# Altium footprint library WatchX_Pro.PcbLib: 22 footprints (part 1 of 2)
Each footprint in its own frame and in the unit in brackets; x right, y up, seen from the top. Pads: shape width x height; smd on the part's side, far side on the other; paste and mask are expansions set on the pad; w line width, h text height; cw(c..) or ccw(c..) is an arc to the next point about the centre after c.
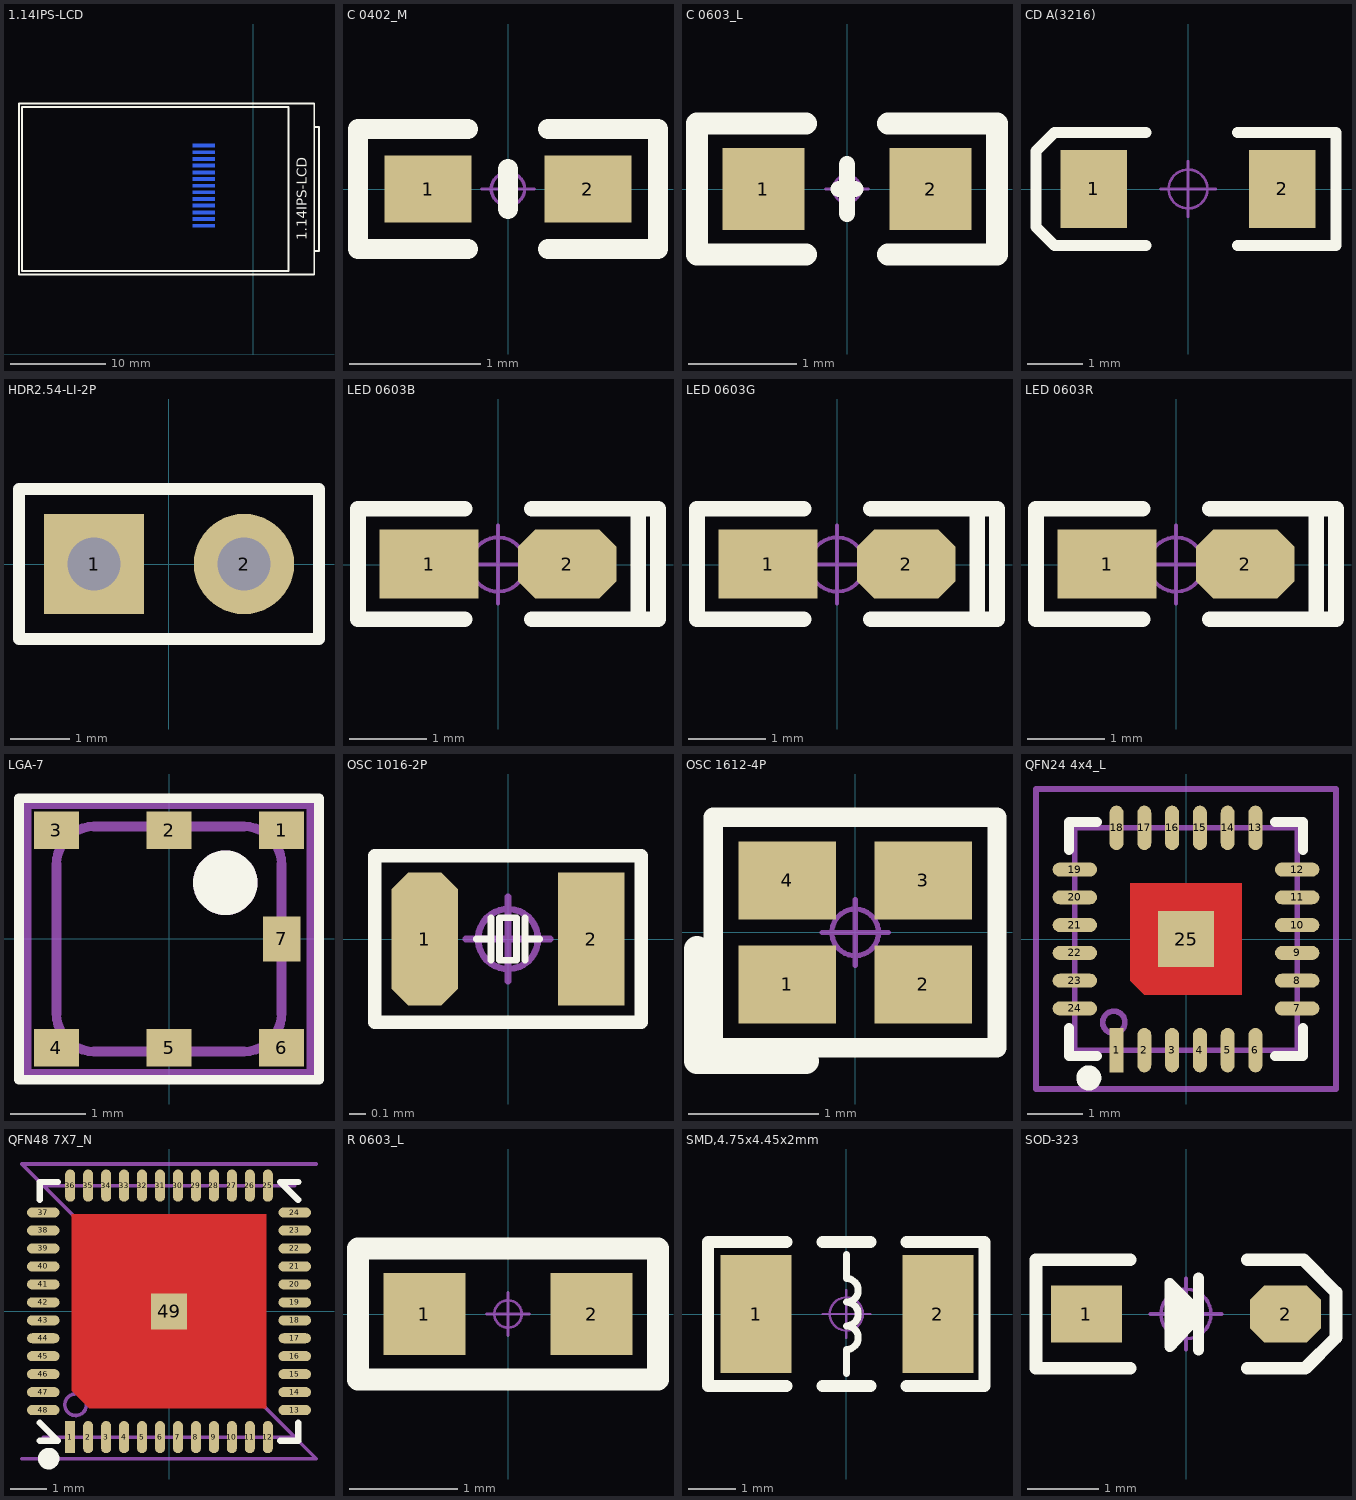
[diagram p0: the footprints below, top view; thin cyan lines are the x and y axes]

## 1.14IPS-LCD [mm] "1.14寸IPS-LCD裸屏SPI接口"
pads (13):
  rect 2.3x0.35 smd far side: 1(-5.2,21.95) 2(-5.2,21.25) 3(-5.2,20.55) 4(-5.2,19.85) 5(-5.2,19.15) 6(-5.2,18.45) 7(-5.2,17.75) 8(-5.2,17.05) 9(-5.2,16.35) 10(-5.2,15.65) 11(-5.2,14.95) 12(-5.2,14.25) 13(-5.2,13.55)
Top Overlay:
  lines w0.04: 6.4,8.4 6.4,12.5
  lines w0.203: 6.4,10.9 6.9,10.9 6.9,23.9 6.4,23.9 ; -24.6,8.4 6.4,8.4 6.4,26.4 -24.6,26.4 -24.6,8.4 ; -24.31,8.8 3.7,8.8 3.71,8.81 3.71,26 -24.3,26 -24.3,8.81 -24.31,8.8
  text "1.14IPS-LCD" at 5.6,12 h1.02
Bottom Overlay:
  lines w0.04: 5.125,8.4 5.125,11.4 ; 6.4,11.4 6.4,18.475
  lines w0.203: 6.4,8.4 6.4,11.4 ; -6.6,11.375 6.4,11.375 6.4,21.375 -1.6,24.375 -6.6,24.375 -6.6,11.375

## C 0402_M [mil] "无极性贴片电容"
pads (2):
  rect 26x20 smd: 1(-24,0) 2(24,0)
Top Overlay:
  lines w6: -12,-18 -45,-18 -45,18 -12,18 ; 0,-6 0,6 ; 12,-18 45,-18 45,18 12,18
Mechanical 15:
  circle w1: c0,0 r5
  lines w1: -7.87,0 7.87,0 ; 0,-7.87 0,7.87
3D body "C 0402.STEP": height 20.68, standoff 0.21, extent -19.68,-10.24 19.68,10.24

## C 0603_L [mil] "无极性贴片电容"
pads (2):
  rect 30x30 smd: 1(-30.59,0) 2(30.59,0)
Top Overlay:
  lines w6: -3,0 0,0 3,0 ; 0,-9 0,9
  lines w8: -15,-24 -54.82,-24 -54.82,24 -15,24 ; 15,-24 54.82,-24 54.82,24 15,24
Mechanical 15:
  circle w1: c0,0 r5
  lines w1: -7.87,0 7.87,0 ; 0,-7.87 0,7.87
3D body "C 0603.STEP": height 31.89, standoff -0.39, extent -31.5,-16.14 31.5,16.14

## CD A(3216) [mm] "长3.2mm，宽1.6mm，厚1.6mm"
pads (2):
  rect 1.2x1.4 smd: 1(-1.7,0) 2(1.7,0)
Top Overlay:
  lines w0.2: -0.762,-1.016 -2.413,-1.016 -2.743,-0.686 -2.743,0.686 -2.413,1.016 -0.762,1.016 ; 0.889,-1.016 2.667,-1.016 2.667,1.016 0.889,1.016
Mechanical 15:
  circle w0.05: c0,0 r0.35
  lines w0.05: -0.5,0 0.5,0 ; 0,-0.5 0,0.5
3D body "CD A(3216).STEP": height 1.6, standoff -0.01, extent -1.6,-0.8 1.6,0.8

## HDR2.54-LI-2P [mm] "排针，2脚"
pads (2):
  rect 1.7x1.7 hole 0.9: 1(-1.27,0)
  round 1.7 hole 0.9: 2(1.27,0)
Top Overlay:
  lines w0.2: -2.54,-1.27 -2.54,1.27 2.54,1.27 2.54,-1.27 -2.54,-1.27
3D body "HDR2.54-1P.STEP": height 8.5, standoff -3, extent 0,-1.27 2.54,1.27
3D body "HDR2.54-1P.STEP": height 8.5, standoff -3, extent -2.54,-1.27 0,1.27

## LED 0603B [mil] "蓝色0603LED"
pads (2):
  rect 50x35 smd: 1(-35,0.26)
  oct 50x35 smd: 2(35,0.26)
Top Overlay:
  lines w8: -17,-27.74 -71,-27.74 -71,-25.74 -71,28.26 -70,28.26 -17,28.26 ; 17,-27.74 70,-27.74 ; 17,28.26 71,28.26 81,28.26 81,-27.74 71,-27.74 71,26.26
Mechanical 15:
  circle w1.97: c0,0 r13.78
  lines w1.97: -19.69,0 19.68,0 ; 0,-19.69 0,19.68
3D body "LED 0603-B.STEP": height 18.36, standoff -0.16, extent -31.49,-15.79 31.5,15.79
3D body "LED 0603玻璃罩.STEP": height 23.82, standoff 8.07, extent -23.58,-15.79 23.58,15.79

## LED 0603G [mil] "绿色0603LED"
pads (2):
  rect 50x35 smd: 1(-35,0.26)
  oct 50x35 smd: 2(35,0.26)
Top Overlay:
  lines w8: -17,-27.74 -71,-27.74 -71,-25.74 -71,28.26 -70,28.26 -17,28.26 ; 17,-27.74 70,-27.74 ; 17,28.26 71,28.26 81,28.26 81,-27.74 71,-27.74 71,26.26
Mechanical 15:
  circle w1.97: c0,0 r13.78
  lines w1.97: -19.68,0 19.69,0 ; 0,-19.68 0,19.69
3D body "LED 0603玻璃罩.": height 0, standoff 0, extent 0,0 0,0
3D body "LED 0603-G.STEP": height 18.36, standoff -0.16, extent -31.49,-15.79 31.5,15.79

## LED 0603R [mil] "红色0603LED"
pads (2):
  rect 50x35 smd: 1(-35,0.26)
  oct 50x35 smd: 2(35,0.26)
Top Overlay:
  lines w8: -17,-27.74 -71,-27.74 -71,-25.74 -71,28.26 -70,28.26 -17,28.26 ; 17,-27.74 70,-27.74 ; 17,28.26 71,28.26 81,28.26 81,-27.74 71,-27.74 71,26.26
Mechanical 15:
  circle w1.97: c0,0 r13.78
  lines w1.97: -19.69,0 19.68,0 ; 0,-19.69 0,19.68
3D body "LED 0603玻璃罩.": height 0, standoff 0, extent 0,0 0,0
3D body "LED 0603-R.STEP": height 18.36, standoff -0.16, extent -31.5,-15.79 31.5,15.79

## LGA-7 [mm]
pads (7):
  rect 0.6x0.5 smd: 1(1.5,1.45) 2(0,1.45) 3(-1.5,1.45) 4(-1.5,-1.45) 5(0,-1.45) 6(1.5,-1.45)
  rect 0.5x0.6 smd: 7(1.5,0)
Top Overlay:
  circle w0.61: c0.75,0.75 r0.125
  circle w0.61: c0.75,0.75 r0.125
  lines w0.127: -2,-1.875 2,-1.875 2,1.875 -2,1.875 -2,-1.875
Mechanical 13:
  circle w0.61: c0.75,0.75 r0.125
  lines w0.127: -1.9,-1.8 1.9,-1.8 1.9,1.8 -1.9,1.8 -1.9,-1.8 ; -1.5,-1 ccw(c-1,-1) -1,-1.5 1,-1.5 ccw(c1,-1) 1.5,-1 1.5,1 ccw(c1,1) 1,1.5 -1,1.5 ccw(c-1,1) -1.5,1 -1.5,-1

## OSC 1016-2P [mm] "1.6*1.0*0.5mm(长宽高)"
height 0.5
pads (2):
  oct 0.4x0.8 smd: 1(-0.5,0)
  rect 0.4x0.8 smd: 2(0.5,0)
Top Overlay:
  lines w0.04: -0.191,0 -0.102,0 ; -0.102,-0.127 -0.102,0.127 ; 0.102,-0.127 0.102,0.127 ; 0.102,0 0.191,0 ; -0.051,-0.127 -0.051,0.127 0.051,0.127 0.051,-0.127 -0.051,-0.127
  lines w0.08: -0.8,-0.5 -0.8,0.5 0.8,0.5 0.8,-0.5 -0.8,-0.5
Mechanical 15:
  circle w0.04: c0,0 r0.18
  lines w0.04: -0.254,0 0.254,0 ; 0,-0.254 0,0.254

## OSC 1612-4P [mm] "1.6*1.2*0.35mm（长宽高）"
pads (4):
  rect 0.75x0.6 smd: 1(-0.525,-0.4) 2(0.525,-0.4) 3(0.525,0.4) 4(-0.525,0.4)
Top Overlay:
  lines w0.15: -1.092,-0.889 1.092,-0.889 1.092,0.889 -1.092,0.889 -1.092,-0.889
  lines w0.2: -1.219,-0.991 -0.381,-0.991 ; -1.219,-0.965 -1.219,-0.127
Mechanical 15:
  circle w0.04: c0,0 r0.18
  lines w0.04: -0.254,0 0.254,0 ; 0,-0.254 0,0.254
3D body "OSC 1612-4.STEP": height 0.35, standoff -0.02, extent -0.8,-0.6 0.8,0.6

## QFN24 4x4_L [mm] "24脚，长x宽x高：4x4x1mm，脚距：0.5mm"
pads (25):
  rect 0.25x0.8 smd: 1(-1.25,-2)
  oval 0.25x0.8 smd: 2(-0.75,-2) 3(-0.25,-2) 4(0.25,-2) 5(0.75,-2) 6(1.25,-2) 13(1.25,2) 14(0.75,2) 15(0.25,2) 16(-0.25,2) 17(-0.75,2) 18(-1.25,2)
  oval 0.8x0.25 smd: 7(2,-1.25) 8(2,-0.75) 9(2,-0.25) 10(2,0.25) 11(2,0.75) 12(2,1.25) 19(-2,1.25) 20(-2,0.75) 21(-2,0.25) 22(-2,-0.25) 23(-2,-0.75) 24(-2,-1.25)
  rect 1x1 smd: 25(0,0)
Top Layer:
  region: -1,1 1,1 1,-1 -0.75,-1 -1,-0.75
Top Overlay:
  circle w0.25: c-1.75,-2.5 r0.1
  lines w0.178: -2.106,-1.6 -2.106,-2.106 -1.6,-2.106 ; -2.106,1.6 -2.106,2.106 -1.6,2.106 ; 1.6,-2.106 2.106,-2.106 2.106,-1.6 ; 1.6,2.106 2.106,2.106 2.106,1.6
Top Solder:
  region: -1,1 1,1 1,-1 -0.75,-1 -1,-0.75
Mechanical 13:
  circle w0.1: c-1.3,-1.5 r0.2
  lines w0.1: -2,-2 -2,2 2,2 2,-2 -2,-2
Mechanical 15:
  circle w0.05: c0,0 r0.35
  lines w0.05: -0.5,0 0.5,0 ; 0,-0.5 0,0.5
  lines w0.1: -2.7,-2.7 2.7,-2.7 2.7,2.7 -2.7,2.7 -2.7,-2.7
3D body "QFN24-4X4.STEP": height 0.95, standoff -0.05, extent -2.01,-2.01 2.01,2.01

## QFN48 7X7_N [mm] "48脚，长x宽x高：7x7x1mm，脚距：0.5mm"
pads (49):
  rect 0.28x0.9 smd: 1(-2.75,-3.5)
  oval 0.28x0.9 smd: 2(-2.25,-3.5) 3(-1.75,-3.5) 4(-1.25,-3.5) 5(-0.75,-3.5) 6(-0.25,-3.5) 7(0.25,-3.5) 8(0.75,-3.5) 9(1.25,-3.5) 10(1.75,-3.5) 11(2.25,-3.5) 12(2.75,-3.5) 25(2.75,3.5) 26(2.25,3.5) 27(1.75,3.5) 28(1.25,3.5) 29(0.75,3.5) 30(0.25,3.5) 31(-0.25,3.5) 32(-0.75,3.5) 33(-1.25,3.5) 34(-1.75,3.5) 35(-2.25,3.5) 36(-2.75,3.5)
  oval 0.9x0.28 smd: 13(3.5,-2.75) 14(3.5,-2.25) 15(3.5,-1.75) 16(3.5,-1.25) 17(3.5,-0.75) 18(3.5,-0.25) 19(3.5,0.25) 20(3.5,0.75) 21(3.5,1.25) 22(3.5,1.75) 23(3.5,2.25) 24(3.5,2.75) 37(-3.5,2.75) 38(-3.5,2.25) 39(-3.5,1.75) 40(-3.5,1.25) 41(-3.5,0.75) 42(-3.5,0.25) 43(-3.5,-0.25) 44(-3.5,-0.75) 45(-3.5,-1.25) 46(-3.5,-1.75) 47(-3.5,-2.25) 48(-3.5,-2.75)
  rect 1x1 smd mask+0.051: 49(0,0)
Top Layer:
  region: -2.7,2.7 2.7,2.7 2.7,-2.7 -2.214,-2.7 -2.7,-2.214
Top Overlay:
  circle w0.3: c-3.35,-4.1 r0.15
  lines w0.178: -3.6,-3.6 -3.1,-3.6 -3.6,-3.1 ; -3.6,3.1 -3.6,3.6 -3.1,3.6 ; 3.1,-3.6 3.6,-3.6 3.6,-3.1 ; 3.6,3.1 3.1,3.6 3.6,3.6
Top Solder:
  region: -2.7,2.7 2.7,2.7 2.7,-2.7 -2.214,-2.7 -2.7,-2.214
Mechanical 13:
  circle w0.1: c-2.6,-2.6 r0.3
  lines w0.1: -3.5,-3.5 3.5,-3.5 ; 3.5,3.5 -3.5,3.5 ; -3.5,3.5 3.5,-3.5 ; -3.5,3.5 3.5,-3.5
Mechanical 15:
  circle w0.05: c0,0 r0.35
  lines w0.05: -0.5,0 0.5,0 ; 0,-0.5 0,0.5
  lines w0.1: -4.1,-4.1 4.1,-4.1 ; 4.1,4.1 -4.1,4.1 ; -4.1,4.1 4.1,-4.1 ; -4.1,4.1 4.1,-4.1
3D body "QFN48-7X7.STEP": height 0.95, standoff -0.05, extent -3.51,-3.51 3.51,3.51

## R 0603_L [mil] "1/10W贴片电阻"
pads (2):
  rect 30x30 smd: 1(-30.59,0) 2(30.59,0)
Top Overlay:
  lines w8: -16,24 54.82,24 54.82,-24 -15,-24 -54.82,-24 -54.82,24 -15,24
Mechanical 15:
  circle w1: c0,0 r5
  lines w1: -7.87,0 7.87,0 ; 0,-7.87 0,7.87
3D body "R 0603.STEP": height 15.79, standoff -0.13, extent -31.49,-15.75 31.5,15.75

## SMD,4.75x4.45x2mm [mm] "4.75x4.45x2mm长宽高"
height 2
pads (2):
  rect 1.5x2.5 smd: 1(-1.905,0) 2(1.93,0)
Top Overlay:
  lines w0.15: 0,-1.258 0,-0.75 ccw(c0,-0.5) 0,-0.25 ccw(c0,0) 0,0.25 ccw(c0,0.5) 0,0.75 0,1.258
  lines w0.254: -1.27,-1.524 -2.921,-1.524 -2.921,1.524 -1.27,1.524 ; -0.508,-1.524 0.508,-1.524 ; -0.508,1.524 0.508,1.524 ; 1.27,-1.524 2.921,-1.524 2.921,1.524 1.27,1.524
Mechanical 15:
  circle w0.05: c0,0 r0.35
  lines w0.05: -0.5,0 0.5,0 ; 0,-0.5 0,0.5

## SOD-323 [mm] "1.8x1.3X0.9mm（长宽高，不包括引脚）"
pads (2):
  rect 1x0.8 smd: 1(-1.4,0)
  oct 1x0.8 smd: 2(1.4,0)
Top Overlay:
  lines w0.152: 0.178,-0.508 0.178,0.508 ; 0.178,-0.025 -0.229,-0.457 -0.229,0.432 0.178,0.025
  lines w0.178: -0.787,-0.762 -2.108,-0.762 -2.108,0.762 -0.787,0.762 ; 0.864,-0.762 1.676,-0.762 2.108,-0.33 2.108,0.305 1.651,0.762 0.864,0.762
  lines w0.254: -0.127,0.254 -0.152,-0.178 0.025,-0.025 -0.025,0.127
Mechanical 15:
  circle w0.05: c0,0 r0.35
  lines w0.05: -0.5,0 0.5,0 ; 0,-0.5 0,0.5
3D body "SOD-323.STEP": height 1, standoff 0.04, extent -1.337,-0.631 1.311,0.669